# Altium footprint library J 集成块.PCBLIB: 89 footprints (part 2 of 6)
Each footprint in its own frame and in the unit in brackets; x right, y up, seen from the top. Pads: shape width x height; smd on the part's side, far side on the other; paste and mask are expansions set on the pad; w line width, h text height; cw(c..) or ccw(c..) is an arc to the next point about the centre after c.
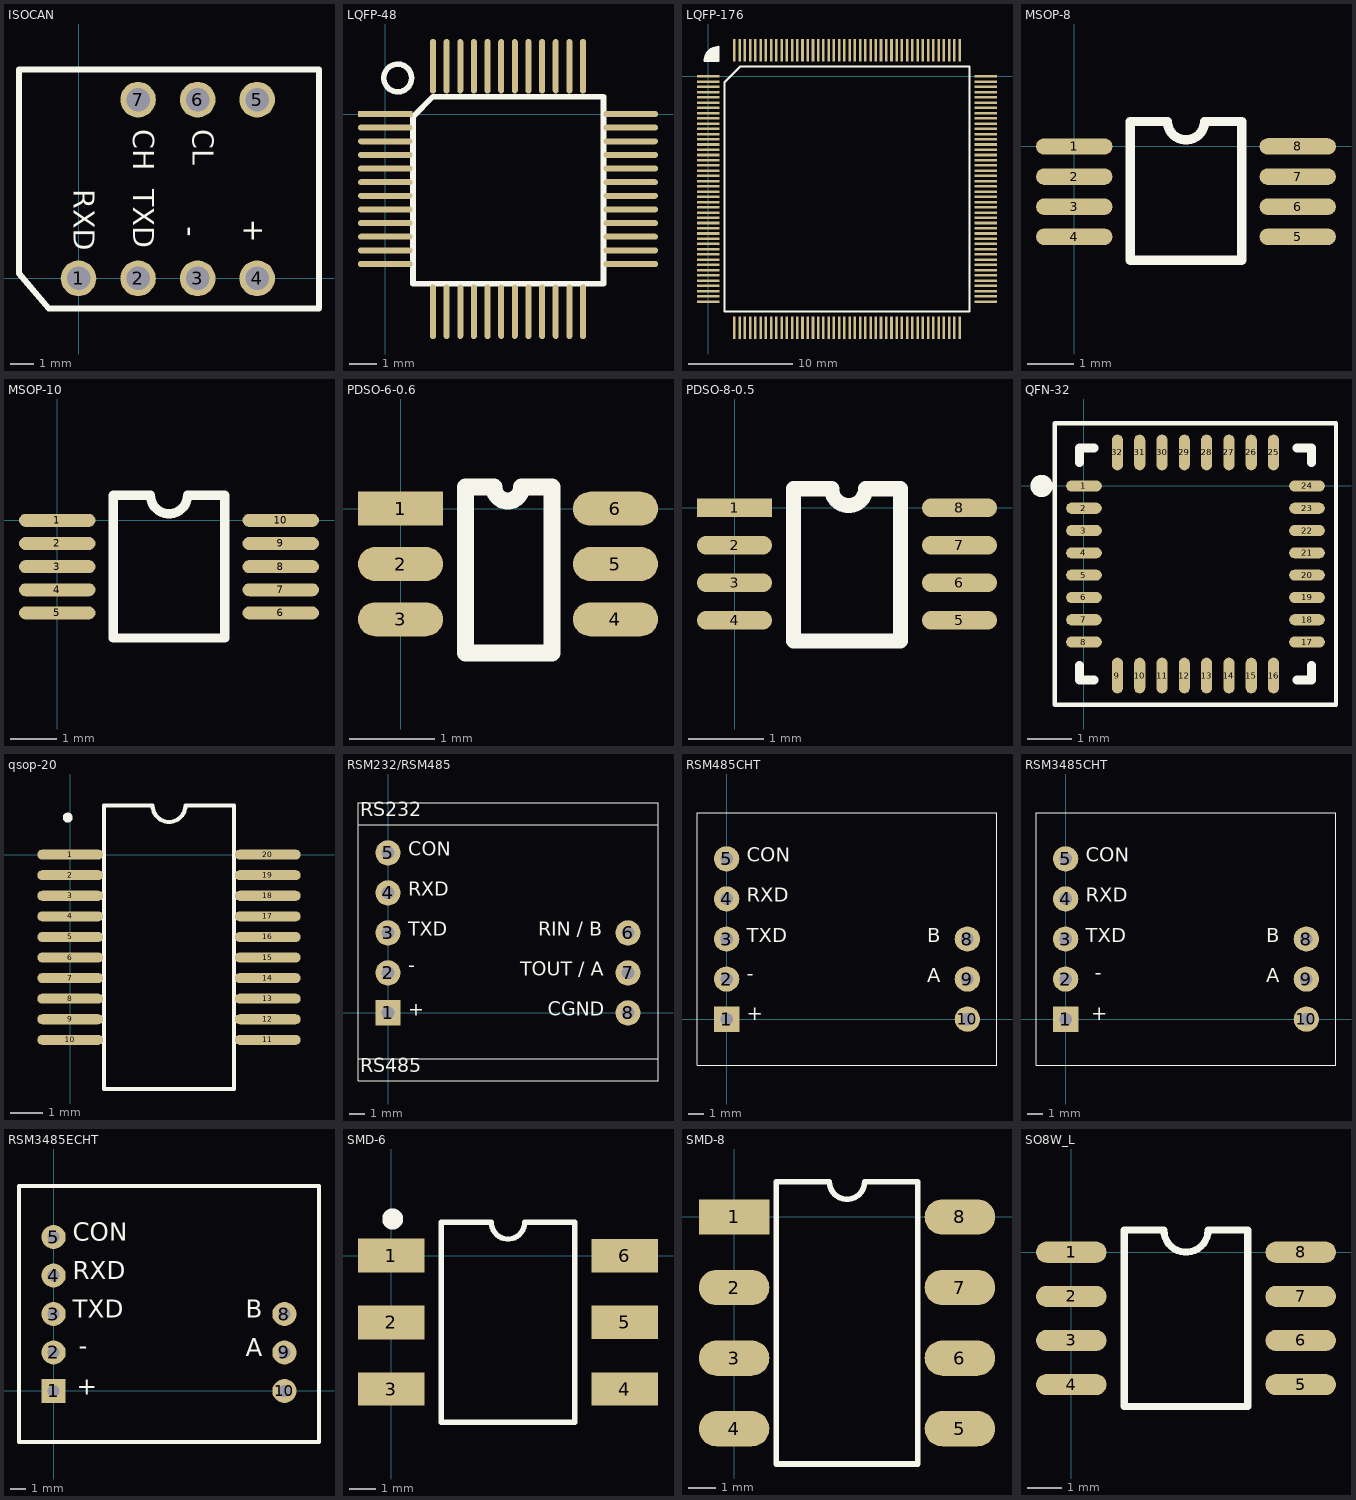
[diagram p1: the footprints below, top view; thin cyan lines are the x and y axes]

## ISOCAN [mm] "CZZ_ISO_CANA"
height 8.1
pads (7):
  round 1.52 hole 1: 1(0,0) 2(2.54,0) 3(5.08,0) 4(7.62,0) 5(7.62,7.62) 6(5.08,7.62) 7(2.54,7.62)
Top Overlay:
  lines w0.254: -2.54,0.21 -1.27,-1.29 10.26,-1.29 10.26,8.91 -2.54,8.91 -2.54,0.21
  text "CH" at 2.032,6.35 h1.52
  text "CL" at 4.572,6.35 h1.52
  text "+" at 8.128,1.524 h1.52
  text "-" at 5.334,1.778 h1.52
  text "TXD" at 2.032,3.81 h1.52
  text "RXD" at -0.508,3.81 h1.52
Bottom Overlay:
  text "CH" at 3.048,6.35 h1.52
  text "CL" at 5.588,6.35 h1.52
  text "+" at 7.112,1.524 h1.52
  text "-" at 4.699,1.778 h1.52
  text "TXD" at 3.048,3.81 h1.52
  text "RXD" at 0.508,3.81 h1.52

## LQFP-48 [mm]
pads (48):
  rect 2x0.22 smd: 1(0,0)
  oval 2x0.22 smd: 2(0,-0.5) 3(0,-1) 4(0,-1.5) 5(0,-2) 6(0,-2.5) 7(0,-3) 8(0,-3.5) 9(0,-4) 10(0,-4.5) 11(0,-5) 12(0,-5.5) 25(9,-5.5) 26(9,-5) 27(9,-4.5) 28(9,-4) 29(9,-3.5) 30(9,-3) 31(9,-2.5) 32(9,-2) 33(9,-1.5) 34(9,-1) 35(9,-0.5) 36(9,0)
  oval 0.22x2 smd: 13(1.75,-7.25) 14(2.25,-7.25) 15(2.75,-7.25) 16(3.25,-7.25) 17(3.75,-7.25) 18(4.25,-7.25) 19(4.75,-7.25) 20(5.25,-7.25) 21(5.75,-7.25) 22(6.25,-7.25) 23(6.75,-7.25) 24(7.25,-7.25) 37(7.25,1.75) 38(6.75,1.75) 39(6.25,1.75) 40(5.75,1.75) 41(5.25,1.75) 42(4.75,1.75) 43(4.25,1.75) 44(3.75,1.75) 45(3.25,1.75) 46(2.75,1.75) 47(2.25,1.75) 48(1.75,1.75)
Top Overlay:
  circle w0.203: c0.457,1.321 r0.508
  lines w0.203: 1.753,0.635 8.001,0.635 ; 1.753,0.635 8.001,0.635 ; 1.753,0.635 1.016,-0.102 1.016,-6.223 8.001,-6.223 8.001,0.635

## LQFP-176 [mil]
height 109.84
pads (176):
  rect 85x9.6 smd: 1(0,0) 2(0,-19.68) 3(0,-39.37) 4(0,-59.05) 5(0,-78.74) 6(0,-98.42) 7(0,-118.11) 8(0,-137.79) 9(0,-157.48) 10(0,-177.17) 11(0,-196.85) 12(0,-216.54) 13(0,-236.22) 14(0,-255.91) 15(0,-275.59) 16(0,-295.27) 17(0,-314.96) 18(0,-334.65) 19(0,-354.33) 20(0,-374.02) 21(0,-393.7) 22(0,-413.39) 23(0,-433.07) 24(0,-452.75) 25(0,-472.44) 26(0,-492.12) 27(0,-511.81) 28(0,-531.49) 29(0,-551.18) 30(0,-570.86) 31(0,-590.55) 32(0,-610.23) 33(0,-629.92) 34(0,-649.6) 35(0,-669.29) 36(0,-688.98) 37(0,-708.66) 38(0,-728.35) 39(0,-748.03) 40(0,-767.72) 41(0,-787.4) 42(0,-807.09) 43(0,-826.77) 44(0,-846.46) 89(1043.31,-846.46) 90(1043.31,-826.77) 91(1043.31,-807.09) 92(1043.31,-787.4) 93(1043.31,-767.72) 94(1043.31,-748.03) 95(1043.31,-728.35) 96(1043.31,-708.66) 97(1043.31,-688.98) 98(1043.31,-669.29) 99(1043.31,-649.6) 100(1043.31,-629.92) 101(1043.31,-610.23) 102(1043.31,-590.55) 103(1043.31,-570.86) 104(1043.31,-551.18) 105(1043.31,-531.49) 106(1043.31,-511.81) 107(1043.31,-492.12) 108(1043.31,-472.44) 109(1043.31,-452.75) 110(1043.31,-433.07) 111(1043.31,-413.39) 112(1043.31,-393.7) 113(1043.31,-374.02) 114(1043.31,-354.33) 115(1043.31,-334.65) 116(1043.31,-314.96) 117(1043.31,-295.27) 118(1043.31,-275.59) 119(1043.31,-255.91) 120(1043.31,-236.22) 121(1043.31,-216.54) 122(1043.31,-196.85) 123(1043.31,-177.17) 124(1043.31,-157.48) 125(1043.31,-137.79) 126(1043.31,-118.11) 127(1043.31,-98.42) 128(1043.31,-78.74) 129(1043.31,-59.05) 130(1043.31,-39.37) 131(1043.31,-19.68) 132(1043.31,0)
  rect 9.6x85 smd: 45(98.42,-944.88) 46(118.11,-944.88) 47(137.79,-944.88) 48(157.48,-944.88) 49(177.16,-944.88) 50(196.85,-944.88) 51(216.53,-944.88) 52(236.22,-944.88) 53(255.9,-944.88) 54(275.59,-944.88) 55(295.28,-944.88) 56(314.96,-944.88) 57(334.65,-944.88) 58(354.33,-944.88) 59(374.02,-944.88) 60(393.7,-944.88) 61(413.39,-944.88) 62(433.07,-944.88) 63(452.76,-944.88) 64(472.44,-944.88) 65(492.13,-944.88) 66(511.81,-944.88) 67(531.49,-944.88) 68(551.18,-944.88) 69(570.86,-944.88) 70(590.55,-944.88) 71(610.23,-944.88) 72(629.92,-944.88) 73(649.61,-944.88) 74(669.29,-944.88) 75(688.97,-944.88) 76(708.66,-944.88) 77(728.34,-944.88) 78(748.03,-944.88) 79(767.71,-944.88) 80(787.4,-944.88) 81(807.09,-944.88) 82(826.77,-944.88) 83(846.46,-944.88) 84(866.14,-944.88) 85(885.83,-944.88) 86(905.51,-944.88) 87(925.2,-944.88) 88(944.88,-944.88) 133(944.88,98.43) 134(925.2,98.43) 135(905.51,98.43) 136(885.83,98.43) 137(866.14,98.43) 138(846.46,98.43) 139(826.77,98.43) 140(807.09,98.43) 141(787.4,98.43) 142(767.71,98.43) 143(748.03,98.43) 144(728.34,98.43) 145(708.66,98.43) 146(688.97,98.43) 147(669.29,98.43) 148(649.61,98.43) 149(629.92,98.43) 150(610.23,98.43) 151(590.55,98.43) 152(570.86,98.43) 153(551.18,98.43) 154(531.49,98.43) 155(511.81,98.43) 156(492.13,98.43) 157(472.44,98.43) 158(452.76,98.43) 159(433.07,98.43) 160(413.39,98.43) 161(393.7,98.43) 162(374.02,98.43) 163(354.33,98.43) 164(334.65,98.43) 165(314.96,98.43) 166(295.28,98.43) 167(275.59,98.43) 168(255.9,98.43) 169(236.22,98.43) 170(216.53,98.43) 171(196.85,98.43) 172(177.16,98.43) 173(157.48,98.43) 174(137.79,98.43) 175(118.11,98.43) 176(98.42,98.43)
Top Overlay:
  lines w3: -15.35,57.77 -15.35,61.77
  lines w5: -15.57,57.55 cw(c39.65,57.55) 39.65,112.77 39.65,57.77 -15.35,57.77 ; -10.35,57.77 -10.35,80.77 ; -5.35,57.77 -5.35,89.77 ; -0.35,57.77 -0.35,95.77 ; 4.65,57.77 4.65,99.77 ; 9.65,57.77 9.65,103.77 ; 14.65,57.77 14.65,106.77 ; 19.65,57.77 19.65,108.77 ; 24.65,57.77 24.65,110.77 ; 29.65,57.77 29.65,111.77 ; 34.65,57.77 34.65,112.77
  lines w7.87: 60.43,-884.45 982.87,-884.45 982.87,37.99 120.87,37.99 60.43,-22.44 60.43,-884.45

## MSOP-8 [mil]
height 43.31
pads (8):
  oval 65x14 smd: 1(0,0) 2(0,-25.59)
  oval 65x14.02 smd: 3(0,-51.18) 4(0,-76.77) 5(190,-76.77) 6(190,-51.18) 7(190,-25.59) 8(190,0)
Top Overlay:
  lines w7.99: 47.76,-96.85 142.24,-96.85 142.24,21.26 110.75,21.26 cw(c95,21.26) 79.25,21.26 47.76,21.26 47.76,-96.85

## MSOP-10 [mil]
pads (10):
  oval 65x11 smd: 1(0,0) 2(0,-19.68) 3(0,-39.37) 4(0,-59.06) 5(0,-78.74) 6(190,-78.74) 7(190,-59.06) 8(190,-39.37) 9(190,-19.68) 10(190,0)
Top Overlay:
  lines w7.99: 47.76,-100 47.76,21.26 79.25,21.26 ccw(c95,21.26) 110.75,21.26 142.24,21.26 142.24,-100 47.76,-100

## PDSO-6-0.6 [mm]
pads (6):
  rect 1x0.4 smd: 1(0,0)
  oval 1x0.4 smd: 2(0,-0.65) 3(0,-1.3) 4(2.527,-1.3) 5(2.527,-0.65) 6(2.527,0)
Top Overlay:
  lines w0.2: 0.762,-1.696 1.778,-1.696 1.778,0.254 1.422,0.254 cw(c1.26,0.254) 1.097,0.254 0.762,0.254 0.762,-1.696

## PDSO-8-0.5 [mm]
height 5.08
pads (8):
  rect 1x0.25 smd: 1(0,0)
  oval 1x0.25 smd: 2(0,-0.5) 3(0,-1) 4(0,-1.5) 5(3,-1.5) 6(3,-1) 7(3,-0.5) 8(3,0)
Top Overlay:
  lines w0.2: 0.787,0.254 0.787,-1.778 2.213,-1.778 2.213,0.254 ; 1.295,0.254 ccw(c1.521,0.254) 1.747,0.254
  lines w0.203: 0.787,0.254 1.295,0.254 ; 1.747,0.254 2.213,0.254

## QFN-32 [mm]
height 5.08
pads (32):
  oval 0.8x0.25 smd: 1(0,0) 2(0,-0.5) 3(0,-1) 4(0,-1.5) 5(0,-2) 6(0,-2.5) 7(0,-3) 8(0,-3.5) 17(5,-3.5) 18(5,-3) 19(5,-2.5) 20(5,-2) 21(5,-1.5) 22(5,-1) 23(5,-0.5) 24(5,0)
  oval 0.25x0.8 smd: 9(0.75,-4.25) 10(1.25,-4.25) 11(1.75,-4.25) 12(2.25,-4.25) 13(2.75,-4.25) 14(3.25,-4.25) 15(3.75,-4.25) 16(4.25,-4.25) 25(4.25,0.75) 26(3.75,0.75) 27(3.25,0.75) 28(2.75,0.75) 29(2.25,0.75) 30(1.75,0.75) 31(1.25,0.75) 32(0.75,0.75)
Top Overlay:
  circle w0.25: c-0.95,0 r0.125
  lines w0.1: -0.65,-4.9 5.65,-4.9 5.65,1.4 -0.65,1.4 -0.65,-4.9
  lines w0.2: -0.1,-4.025 -0.1,-4.35 0.225,-4.35 ; -0.1,0.525 -0.1,0.85 0.225,0.85 ; 4.775,-4.35 5.1,-4.35 5.1,-4.025 ; 4.775,0.85 5.1,0.85 5.1,0.525

## qsop-20 [mil]
pads (20):
  oval 80x12.2 smd: 1(0,0) 2(0,-25) 3(0,-50) 4(0,-75) 5(0,-100) 6(0,-125.04) 7(0,-150.04) 8(0,-175.04) 9(0,-200.04) 10(0,-225.04) 11(240,-225.04) 12(240,-200.04) 13(240,-175.04) 14(240,-150.04) 15(240,-125.04) 16(240,-100) 17(240,-75) 18(240,-50) 19(240,-25) 20(240,0)
Top Overlay:
  circle w6: c-3,45 r3
  lines w5: 41.26,-284.76 198.74,-284.76 198.74,59.72 140,59.72 cw(c120,59.72) 100,59.72 41.26,59.72 41.26,-284.76

## RSM232/RSM485 [mm]
pads (8):
  rect 1.6x1.6 hole 0.8: 1(0,0)
  round 1.6 hole 0.8: 2(0,2.54) 3(0,5.08) 4(0,7.62) 5(0,10.16) 6(15.24,5.08) 7(15.24,2.54) 8(15.24,0)
Top Overlay:
  lines w0.076: -1.905,-2.921 17.145,-2.921 ; -1.905,11.938 17.145,11.938 ; -1.905,-4.318 -1.905,13.335 17.145,13.335 17.145,-4.318 -1.905,-4.318
  text "RS485" at -1.778,-4.064 h1.5
  text "RS232" at -1.778,12.192 h1.5
  text "CGND" at 10.16,-0.508 h1.52
  text "RIN / B" at 9.525,4.572 h1.52
  text "TOUT / A" at 8.382,2.032 h1.52
  text "+" at 1.27,-0.508 h1.52
  text "-" at 1.27,2.286 h1.52
  text "TXD" at 1.27,4.572 h1.52
  text "RXD" at 1.27,7.112 h1.52
  text "CON" at 1.27,9.652 h1.52
Bottom Overlay:
  text "TOUT / A" at 13.97,2.032 h1.52
  text "RIN / B" at 13.97,4.572 h1.52
  text "CGND" at 13.97,-0.508 h1.52
  text "RXD" at 4.064,7.112 h1.52
  text "TXD" at 3.81,4.572 h1.52
  text "-" at 1.778,2.286 h1.52
  text "+" at 2.032,-0.508 h1.52
  text "CON" at 4.191,9.652 h1.52

## RSM485CHT [mm] "5V,老CAN收发器,20130401前"
pads (8):
  rect 1.6x1.6 hole 0.8: 1(0,0)
  round 1.6 hole 0.8: 2(0,2.54) 3(0,5.08) 4(0,7.62) 5(0,10.16) 8(15.24,5.08) 9(15.24,2.54) 10(15.24,0)
Top Overlay:
  lines w0.076: -1.88,-2.92 -1.88,13.08 17.12,13.08 17.12,-2.92 -1.88,-2.92
  text "CON" at 1.27,9.652 h1.52
  text "RXD" at 1.27,7.112 h1.52
  text "+" at 1.27,-0.381 h1.52
  text "-" at 1.27,2.159 h1.52
  text "TXD" at 1.27,4.572 h1.52
  text "B" at 12.7,4.572 h1.52
  text "A" at 12.7,2.032 h1.52
Bottom Overlay:
  text "-" at 1.778,2.286 h1.52
  text "CON" at 4.191,9.652 h1.52
  text "RXD" at 4.064,7.112 h1.52
  text "TXD" at 3.81,4.572 h1.52
  text "+" at 2.159,-0.381 h1.52
  text "B" at 13.589,4.572 h1.52
  text "A" at 13.589,2.032 h1.52

## RSM3485CHT [mm] "3.3V,老CAN收发器,20130401前"
pads (8):
  rect 1.6x1.6 hole 0.8: 1(0,0)
  round 1.6 hole 0.8: 2(0,2.54) 3(0,5.08) 4(0,7.62) 5(0,10.16) 8(15.24,5.08) 9(15.24,2.54) 10(15.24,0)
Top Overlay:
  lines w0.076: -1.88,-2.92 -1.88,13.08 17.12,13.08 17.12,-2.92 -1.88,-2.92
  text "CON" at 1.27,9.652 h1.52
  text "RXD" at 1.27,7.112 h1.52
  text "+" at 1.626,-0.381 h1.52
  text "-" at 1.829,2.21 h1.52
  text "TXD" at 1.27,4.572 h1.52
  text "B" at 12.7,4.572 h1.52
  text "A" at 12.7,2.032 h1.52
Bottom Overlay:
  text "-" at 2.235,2.21 h1.52
  text "CON" at 4.191,9.652 h1.52
  text "RXD" at 4.064,7.112 h1.52
  text "TXD" at 3.81,4.572 h1.52
  text "+" at 2.337,-0.381 h1.52
  text "B" at 13.589,4.572 h1.52
  text "A" at 13.589,2.032 h1.52

## RSM3485ECHT [mm] "3.3V供电"
height 4.5
pads (8):
  rect 1.6x1.6 hole 0.8: 1(0,0)
  round 1.6 hole 0.8: 2(0,2.54) 3(0,5.08) 4(0,7.62) 5(0,10.16) 8(15.24,5.08) 9(15.24,2.54) 10(15.24,0)
Top Overlay:
  lines w0.254: -2.28,-3.37 17.52,-3.37 17.52,13.53 -2.28,13.53 -2.28,-3.37
  text "A" at 12.7,1.905 h2.03
  text "B" at 12.7,4.445 h2.03
  text "TXD" at 1.27,4.445 h2.03
  text "-" at 1.651,2.032 h2.03
  text "+" at 1.524,-0.635 h2.03
  text "RXD" at 1.27,6.985 h2.03
  text "CON" at 1.27,9.525 h2.03
Bottom Overlay:
  text "A" at 13.97,1.905 h2.03
  text "B" at 13.97,4.445 h2.03
  text "+" at 2.413,-0.635 h2.03
  text "TXD" at 4.699,4.445 h2.03
  text "RXD" at 5.08,6.985 h2.03
  text "CON" at 5.207,9.525 h2.03
  text "-" at 2.159,2.032 h2.03

## SMD-6 [mm] "光耦继电器"
pads (6):
  rect 2.54x1.3 smd: 1(0,0) 2(0,-2.54)
  rect 2.54x1.27 smd: 3(0,-5.08) 4(8.89,-5.08) 5(8.89,-2.54) 6(8.89,0)
Top Overlay:
  circle w0.4: c0.054,1.397 r0.2
  lines w0.203: 1.905,-6.35 6.985,-6.35 6.985,1.27 5.08,1.27 cw(c4.445,1.27) 3.81,1.27 1.905,1.27 1.905,-6.35

## SMD-8 [mil]
pads (8):
  rect 100x50 smd: 1(0,0)
  oval 100x50 smd: 2(0,-100) 3(0,-200) 4(0,-300) 5(320,-300) 6(320,-200) 7(320,-100) 8(320,0)
Top Overlay:
  lines w8: 60,-350 260,-350 260,50 185,50 cw(c160,50) 135,50 60,50 60,-350

## SO8W_L [mil] "贴片-IC"
pads (8):
  oval 80x24 smd: 1(0,0) 2(0,-50) 3(0,-100) 4(0,-150) 5(260,-150) 6(260,-100) 7(260,-50) 8(260,0)
Top Overlay:
  lines w8: 60,-175 60,25 105,25 ccw(c130,25) 155,25 200,25 200,-175 60,-175